# Altium schematic symbol library MC9S08GT60A.Schlib: 1 symbol
Pins are listed as number, name and electrical type; pins without a type are passive.

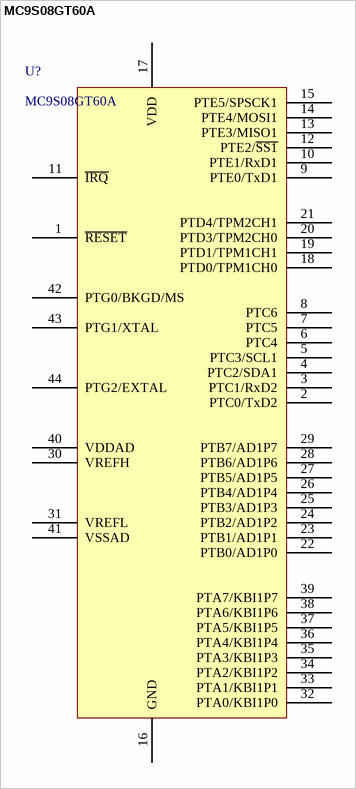
[diagram p0: symbol MC9S08GT60A]

## MC9S08GT60A
designator U?
pins: 1 ~{RESET}, 2 PTC0/TxD2, 3 PTC1/RxD2, 4 PTC2/SDA1, 5 PTC3/SCL1, 6 PTC4, 7 PTC5, 8 PTC6, 9 PTE0/TxD1, 10 PTE1/RxD1, 11 ~{IRQ}, 12 PTE2/~{SS1}, 13 PTE3/MISO1, 14 PTE4/MOSI1, 15 PTE5/SPSCK1, 16 GND, 17 VDD, 18 PTD0/TPM1CH0, 19 PTD1/TPM1CH1, 20 PTD3/TPM2CH0, 21 PTD4/TPM2CH1, 22 PTB0/AD1P0, 23 PTB1/AD1P1, 24 PTB2/AD1P2, 25 PTB3/AD1P3, 26 PTB4/AD1P4, 27 PTB5/AD1P5, 28 PTB6/AD1P6, 29 PTB7/AD1P7, 30 VREFH, 31 VREFL, 32 PTA0/KBI1P0, 33 PTA1/KBI1P1, 34 PTA2/KBI1P2, 35 PTA3/KBI1P3, 36 PTA4/KBI1P4, 37 PTA5/KBI1P5, 38 PTA6/KBI1P6, 39 PTA7/KBI1P7, 40 VDDAD, 41 VSSAD, 42 PTG0/BKGD/MS, 43 PTG1/XTAL, 44 PTG2/EXTAL